# EAGLE library part 1-826629-6 (library 1-826629-6)
16w s/r straight pin header gold Mod II Source: Datasheet <https://datasheet.datasheetarchive.com/originals/distributors/Datasheets-DGA21/2082916.pdf>
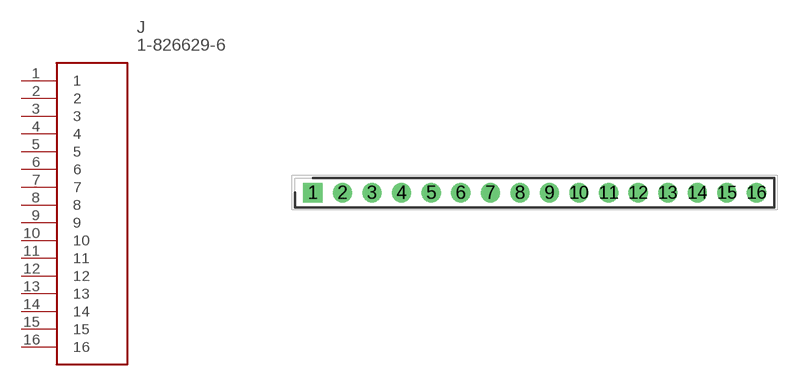
[diagram p0: symbol with the pads of HDRV16W63P0X254_1X16_4064X250X; footprint HDRV16W63P0X254_1X16_4064X250X]

Designator prefix J

## 1-826629-6 (Description: 16w s/r straight pin header gold Mod II; Height: 9.5mm; Manufacturer_Name: TE Connectivity; Manufacturer_Part_Number: 1-826629-6)  [HDRV16W63P0X254_1X16_4064X250X]
1  1
2  2
3  3
4  4
5  5
6  6
7  7
8  8
9  9
10  10
11  11
12  12
13  13
14  14
15  15
16  16

## Footprint HDRV16W63P0X254_1X16_4064X250X (pad centres in mm)
1-826629-6
drill 1.1 pad 1.65 square: 1 0,0
drill 1.1 pad 1.65: 2 2.54,0; 3 5.08,0; 4 7.62,0; 5 10.16,0; 6 12.7,0; 7 15.24,0; 8 17.78,0; 9 20.32,0; 10 22.86,0; 11 25.4,0; 12 27.94,0; 13 30.48,0; 14 33.02,0; 15 35.56,0; 16 38.1,0